# Altium schematic symbol library Resistor.SchLib: 34 symbols
Pins are listed as number, name and electrical type; pins without a type are passive.

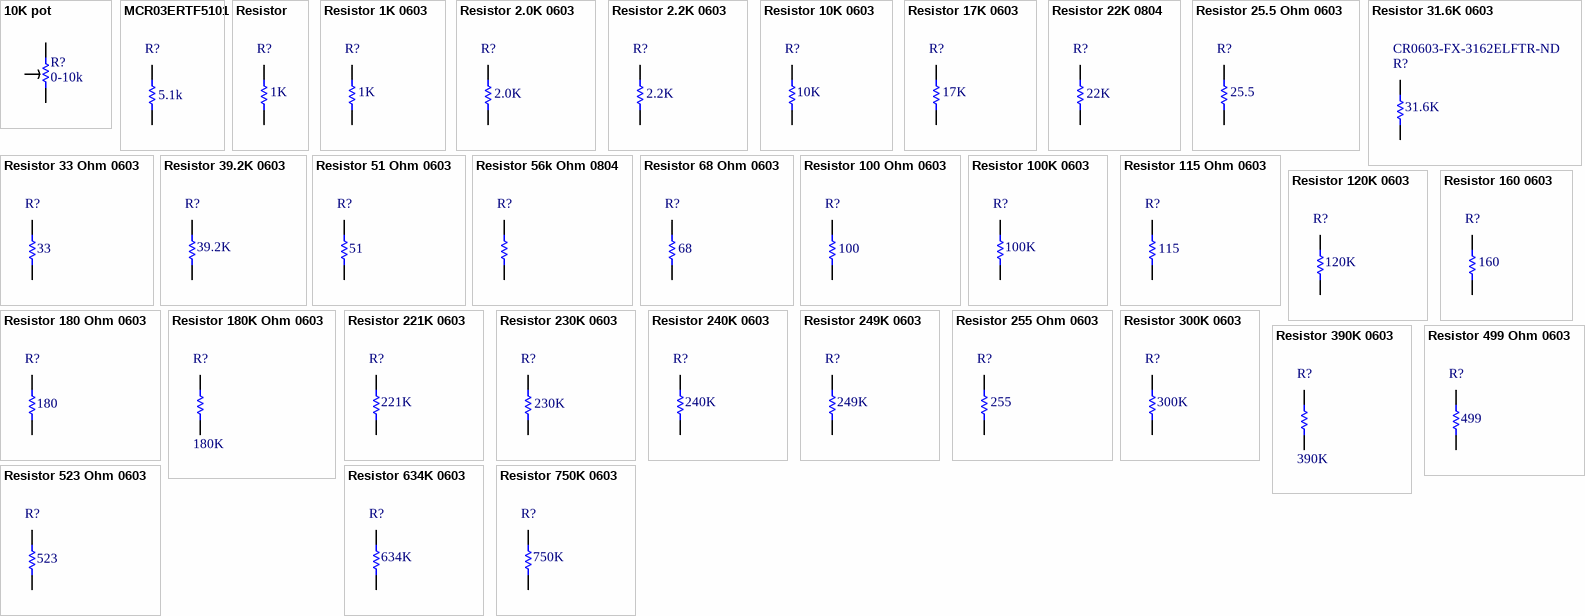
[diagram p0: symbols 10K pot to Resistor 750K 0603]

## 10K pot
designator R?  value 0-10k  (hidden comment: 10K pot)
Power: 100 mW
footprint pot socket
pins: 1, 2, 3

## MCR03ERTF5101
designator R?, comment Resistance (Ohms): 5.1k  (hidden comment: 5k Resistor)
RES SMD 5.1K OHM 1% 1/10W 0603; Manufacturer: Rohm Semiconductor; Manufacturer Part Number: MCR03ERTF5101; Power (Watts): 0.1W, 1/10W; Temperature Coefficient: ±100ppm/°C; Supplier 1: Digi-Key; Supplier Part Number 1: RHM5.10KCFCT-ND; RoHS: RoHS Compliant; Category: Resistors; Stock 1: 57596; Pricing 1: 1=0.1, 10=0.011, 25=0.0084, 100=0.0047, 250=0.00356, 500=0.00286, 1000=0.0021 (USD); Packaging: Cut Tape (CT); Tolerance: ±1%; Composition: Thick Film; Features: -; Operating Temperature: -55°C ~ 155°C; Package / Case: 0603 (1608 Metric); Supplier Device Package: 0603 (1608 Metric); Size / Dimension: 0.063" L x 0.031" W (1.60mm x 0.80mm); Height: 0.022" (0.55mm); Number of Terminations: 2; ComponentLink1URL: http://rohmfs.rohm.com/en/products/databook/datasheet/passive/resistor/chip_resistor/mcr_g.pdf; ComponentLink1Description: http://rohmfs.rohm.com/en/products/databook/datasheet/passive/resistor/chip_resistor/mcr_g.pdf
footprint SMT 0603 (1608) Resistor
pins: 1, 2

## Resistor
designator R?, comment value 1K  (hidden comment: Generic Resistor)
Power: 100 mW
footprint SMT 0603 (1608)
pins: 1, 2

## Resistor 1K 0603
designator R?  value 1K
Resistor 1K 1% Surface Mount 0603; Power: 100 mW; Supplier Part Number 1: P1.00KHCT-ND; Supplier 1: Digi-Key
footprint SMT 0603 (1608)
pins: 1, 2

## Resistor 2.0K 0603
designator R?  value 2.0K  (hidden comment: Resistor 2.0K 0603)
Resistor 2.0K 1% Surface Mount 0603; Power: 100 mW; Supplier Part Number 1: P2.00KHCT-ND; Supplier 1: Digi-Key
footprint SMT 0603 (1608)
pins: 1, 2

## Resistor 2.2K 0603
designator R?  value 2.2K  (hidden comment: Resistor 2.2K 0603)
Resistor 2.2K 1% Surface Mount 0603; Power: 100 mW; Supplier Part Number 1: P2.20KHCT-ND; Supplier 1: Digi-Key
footprint SMT 0603 (1608)
pins: 1, 2

## Resistor 10K 0603
designator R?  value 10K  (hidden comment: Resistor 10K 0603)
Resistor 10K 1% Surface Mount 0603; Power: 100 mW; Supplier Part Number 1: P10.0KHCT-ND; Supplier 1: Digi-Key
footprint SMT 0603 (1608)
pins: 1, 2

## Resistor 17K 0603
designator R?  value 17K  (hidden comment: Resistor 17K 0603)
Resistor 17K 1% Surface Mount 0603
footprint SMT 0603 (1608)
pins: 1, 2

## Resistor 22K 0804
designator R?  value 22K  (hidden comment: Resistor 22K 0804)
Resistor 22K 1% Surface Mount 0804; Power: 100 mW
footprint SMT 0805 (2012) (SMT 0805(2012))
pins: 1, 2

## Resistor 25.5 Ohm 0603
designator R?  value 25.5
Resistor 25.5 Ohm 1% Surface Mount 0603; Power: 100 mW; Supplier 1: Digi-Key; Supplier Part Number 1: P25.5HTR-ND
footprint SMT 0603 (1608) Resistor
pins: 1, 2

## Resistor 31.6K 0603
designator R?  value 31.6K  Supplier Part Number 1: CR0603-FX-3162ELFTR-ND  (hidden comment: Resistor 31.6K 0603)
Resistor 31.6K 1% Surface Mount 0603; Power: 100 mW; Supplier 1: Digi-Key
footprint SMT 0603 (1608)
pins: 1, 2

## Resistor 33 Ohm 0603
designator R?  value 33  (hidden comment: Resistor 33 Ohm 0603)
Resistor 33 1% Surface Mount 0603; Power: 100 mW; Supplier 1: Arrow; Supplier Part Number 1: ERJ-3GEYJ330V
footprint SMT 0603 (1608)
pins: 1, 2

## Resistor 39.2K 0603
designator R?  value 39.2K  (hidden comment: Resistor 39.2K 0603)
Resistor 39.2K Surface Mount 0603; Manufacturer: Panasonic Electronic Components; Manufacturer Part Number: ERJ-3EKF3922V; Tolerance: ±1%; Power (Watts): 0.1W, 1/10W; Temperature Coefficient: ±100ppm/°C; Supplier 1: Digi-Key; Supplier Part Number 1: P39.2KHCT-ND; RoHS: RoHS Compliant; Category: Resistors; Stock 1: 26668; Pricing 1: 1=0.1, 50=0.015, 100=0.0114, 250=0.00844, 500=0.00624, 1000=0.00416, 2500=0.00351 (USD); Packaging: Cut Tape (CT); Resistance (Ohms): 39.2k; Composition: Thick Film; Features: -; Package / Case: 0603 (1608 Metric); Supplier Device Package: 0603; Size / Dimension: 0.063" L x 0.031" W (1.60mm x 0.80mm); Height: 0.022" (0.55mm); Number of Terminations: 2; ComponentLink1URL: http://industrial.panasonic.com/www-cgi/jvcr13pz.cgi?E+PZ+3+AOA0002+ERJ3EKF3922V+7+WW; ComponentLink1Description: http://industrial.panasonic.com/www-cgi/jvcr13pz.cgi?E+PZ+3+AOA0002+ERJ3EKF3922V+7+WW
footprint SMT 0603 (1608)
pins: 1, 2

## Resistor 51 Ohm 0603
designator R?  value 51  (hidden comment: Resistor 51 Ohm 0603)
Resistor 51 1% Surface Mount 0603; Power: 100 mW; Supplier 1: Arrow; Supplier Part Number 1: ERJ-3EKF51R0V
footprint SMT 0603 (1608)
pins: 1, 2

## Resistor 56k Ohm 0804
designator R?, comment Resistor 56K Ohm  (value not drawn)
Resistor 56K 0804
footprint SMT 0805 (2012) (SMT 0805(2012))
pins: 1, 2

## Resistor 68 Ohm 0603
designator R?, comment value 68  (hidden comment: Resistor 68 Ohm)
Resistor 68 1% Surface Mount 0603; Power: 250 mW; Supplier 1: Digi-Key; Supplier Part Number 1: P68.0HCT-ND
footprint SMT 0603 (1608)
pins: 1, 2

## Resistor 100 Ohm 0603
designator R?  value 100
Resistor 100 1% Surface Mount 0603; Power: 250 mW; Supplier Part Number 1: P100HCT-ND; Supplier 1: Digi-Key
footprint SMT 0603 (1608)
pins: 1, 2

## Resistor 100K 0603
designator R?  value 100K  (hidden comment: Resistor 100K 0603)
Resistor 100K Surface Mount 0603; Supplier 1: Digi-Key; Supplier Part Number 1: P100KHCT-ND
footprint SMT 0603 (1608)
pins: 1, 2

## Resistor 115 Ohm 0603
designator R?  value 115
Resistor 115 1% Surface Mount 0603; Manufacturer: Panasonic Electronic Components; Manufacturer Part Number: ERJ-3EKF1150V; Power: 250 mW; Power (Watts): 0.1W, 1/10W; Temperature Coefficient: ±100ppm/°C; Supplier 1: Digi-Key; Supplier Part Number 1: P115HCT-ND; RoHS: RoHS Compliant; Category: Resistors; Stock 1: 68587; Pricing 1: 1=0.1, 50=0.015, 100=0.0114, 250=0.00844, 500=0.00624, 1000=0.00416, 2500=0.00351 (USD); Packaging: Cut Tape (CT); Resistance (Ohms): 115; Tolerance: ±1%; Composition: Thick Film; Features: -; Package / Case: 0603 (1608 Metric); Supplier Device Package: 0603; Size / Dimension: 0.063" L x 0.031" W (1.60mm x 0.80mm); Height: 0.022" (0.55mm); Number of Terminations: 2; ComponentLink1URL: http://industrial.panasonic.com/www-cgi/jvcr13pz.cgi?E+PZ+3+AOA0002+ERJ3EKF1150V+7+WW; ComponentLink1Description: http://industrial.panasonic.com/www-cgi/jvcr13pz.cgi?E+PZ+3+AOA0002+ERJ3EKF1150V+7+WW
footprint SMT 0603 (1608)
pins: 1, 2

## Resistor 120K 0603
designator R?  value 120K  (hidden comment: Resistor 120K 0603)
Resistor 120K Surface Mount 0603; Supplier 1: Digi-Key; Supplier Part Number 1: P120KHCT-ND
footprint SMT 0603 (1608)
pins: 1, 2

## Resistor 160 0603
designator R?  value 160  (hidden comment: Resistor 160 0603)
Resistor 160 Surface Mount 0603; Power: 100 mW
footprint SMT 0603 (1608)
pins: 1, 2

## Resistor 180 Ohm 0603
designator R?  value 180  (hidden comment: Resistor 180 Ohm 0603)
Resistor 180 1% Surface Mount 0603; Power: 100 mW; Supplier Part Number 1: P180HCT-ND; Supplier 1: Digi-Key
footprint SMT 0603 (1608)
pins: 1, 2

## Resistor 180K Ohm 0603
designator R?  value 180K  (hidden comment: Resistor 180K Ohm 0603)
Resistor 180K Surface Mount 0603; Manufacturer: Panasonic Electronic Components; Manufacturer Part Number: ERJ-3EKF1803V; Power: 100 mW; Tolerance: ±1%; Power (Watts): 0.1W, 1/10W; Temperature Coefficient: ±100ppm/°C; Category: Resistors; Packaging: Cut Tape (CT); Resistance (Ohms): 180k; Composition: Thick Film; Features: -; Package / Case: 0603 (1608 Metric); Supplier Device Package: 0603; Size / Dimension: 0.063" L x 0.031" W (1.60mm x 0.80mm); Height: 0.022" (0.55mm); Number of Terminations: 2; ComponentLink1URL: http://industrial.panasonic.com/www-cgi/jvcr13pz.cgi?E+PZ+3+AOA0002+ERJ3EKF1803V+7+WW; ComponentLink1Description: http://industrial.panasonic.com/www-cgi/jvcr13pz.cgi?E+PZ+3+AOA0002+ERJ3EKF1803V+7+WW; Supplier 1: Digi-Key; Supplier Part Number 1: P180KHCT-ND; RoHS: RoHS Compliant; Stock 1: 132048; Pricing 1: 1=0.1, 50=0.015, 100=0.0114, 250=0.00844, 500=0.00624, 1000=0.00416, 2500=0.00351 (USD)
footprint SMT 0603 (1608)
pins: 1, 2

## Resistor 221K 0603
designator R?  value 221K  (hidden comment: Resistor 221K 0603)
Resistor 221K Surface Mount 0603; Manufacturer: Panasonic Electronic Components; Manufacturer Part Number: ERJ-3EKF2213V; Tolerance: ±1%; Power (Watts): 0.1W, 1/10W; Temperature Coefficient: ±100ppm/°C; Supplier 1: Digi-Key; Supplier Part Number 1: P221KHCT-ND; RoHS: RoHS Compliant; Category: Resistors; Stock 1: 126782; Pricing 1: 1=0.1, 50=0.015, 100=0.0114, 250=0.00844, 500=0.00624, 1000=0.00416, 2500=0.00351 (USD); Packaging: Cut Tape (CT); Resistance (Ohms): 221k; Composition: Thick Film; Features: -; Package / Case: 0603 (1608 Metric); Supplier Device Package: 0603; Size / Dimension: 0.063" L x 0.031" W (1.60mm x 0.80mm); Height: 0.022" (0.55mm); Number of Terminations: 2; ComponentLink1URL: http://industrial.panasonic.com/www-cgi/jvcr13pz.cgi?E+PZ+3+AOA0002+ERJ3EKF2213V+7+WW; ComponentLink1Description: http://industrial.panasonic.com/www-cgi/jvcr13pz.cgi?E+PZ+3+AOA0002+ERJ3EKF2213V+7+WW
footprint SMT 0603 (1608)
pins: 1, 2

## Resistor 230K 0603
designator R?  value 230K  (hidden comment: Resistor 230K 0603)
Resistor 230K 1% Surface Mount 0603
footprint SMT 0603 (1608)
pins: 1, 2

## Resistor 240K 0603
designator R?  value 240K  (hidden comment: Resistor 240K 0603)
Resistor 240K Surface Mount 0603; Supplier 1: Digi-Key; Supplier Part Number 1: P240KHCT-ND
footprint SMT 0603 (1608)
pins: 1, 2

## Resistor 249K 0603
designator R?  value 249K  (hidden comment: Resistor 249K 0603)
Resistor 249K Surface Mount 0603; Manufacturer: Panasonic Electronic Components; Manufacturer Part Number: ERJ-3EKF2493V; Tolerance: ±1%; Power (Watts): 0.1W, 1/10W; Temperature Coefficient: ±100ppm/°C; Supplier 1: Digi-Key; Supplier Part Number 1: P249KHCT-ND; RoHS: RoHS Compliant; Category: Resistors; Stock 1: 119510; Pricing 1: 1=0.1, 50=0.015, 100=0.0114, 250=0.00844, 500=0.00624, 1000=0.00416, 2500=0.00351 (USD); Packaging: Cut Tape (CT); Resistance (Ohms): 249k; Composition: Thick Film; Features: -; Package / Case: 0603 (1608 Metric); Supplier Device Package: 0603; Size / Dimension: 0.063" L x 0.031" W (1.60mm x 0.80mm); Height: 0.022" (0.55mm); Number of Terminations: 2; ComponentLink1URL: http://industrial.panasonic.com/www-cgi/jvcr13pz.cgi?E+PZ+3+AOA0002+ERJ3EKF2493V+7+WW; ComponentLink1Description: http://industrial.panasonic.com/www-cgi/jvcr13pz.cgi?E+PZ+3+AOA0002+ERJ3EKF2493V+7+WW
footprint SMT 0603 (1608)
pins: 1, 2

## Resistor 255 Ohm 0603
designator R?  value 255
Resistor 255 Ohm 1% Surface Mount 0603; Power: 100 mW; Supplier 1: Digi-Key; Supplier Part Number 1: P255HTR-ND
footprint SMT 0603 (1608) Resistor
pins: 1, 2

## Resistor 300K 0603
designator R?  value 300K  (hidden comment: Resistor 300K 0603)
Resistor 300K Surface Mount 0603; Supplier 1: Digi-Key; Supplier Part Number 1: P300KHCT-ND
footprint SMT 0603 (1608)
pins: 1, 2

## Resistor 390K 0603
designator R?  value 390K  (hidden comment: Resistor 390K 0603)
Resistor 390K Surface Mount 0603; Supplier 1: TME; Supplier Part Number 1: 1/4W390K
footprint SMT 0603 (1608)
pins: 1, 2

## Resistor 499 Ohm 0603
designator R?  value 499  (hidden comment: Resistor 499 Ohm 0603)
Resistor 499 1% Surface Mount 0603; Power: 100 mW; Supplier Part Number 1: P499HCT-ND; Supplier 1: Digi-Key
footprint SMT 0603 (1608)
pins: 1, 2

## Resistor 523 Ohm 0603
designator R?  value 523  (hidden comment: Resistor 523 Ohm 0603)
Resistor 523 1% Surface Mount 0603; Power: 100 mW; Supplier Part Number 1: P523HCT-ND; Supplier 1: Digi-Key
footprint SMT 0603 (1608)
pins: 1, 2

## Resistor 634K 0603
designator R?  value 634K  (hidden comment: Resistor 634K 0603)
Resistor 634K Surface Mount 0603; Supplier 1: Digi-Key; Supplier Part Number 1: P634KHCT-ND
footprint SMT 0603 (1608)
pins: 1, 2

## Resistor 750K 0603
designator R?  value 750K  (hidden comment: Resistor 750K 0603)
Resistor 750K Surface Mount 0603; Supplier 1: Digi-Key; Supplier Part Number 1: P750KHCT-ND
footprint SMT 0603 (1608)
pins: 1, 2